# EAGLE library part JST-PH-4 (library dviid)
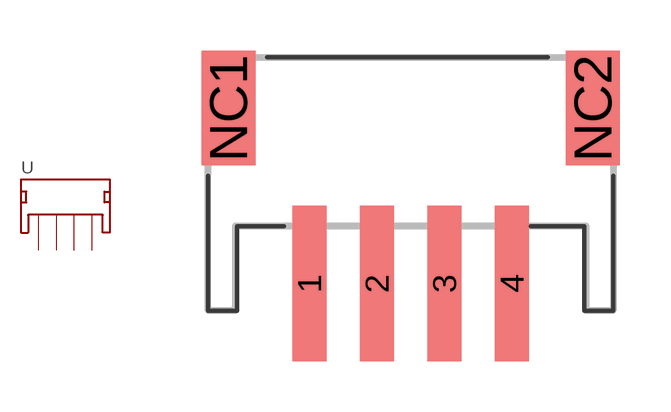
[diagram p22: symbol with the pads of JST-PH-4-SMT-RA; footprint JST-PH-4-SMT-RA]

Designator prefix -

## JST-PH-4  [JST-PH-4-SMT-RA]
1  A
2  B
3  C
4  D
NC1  PAD1
NC2  PAD2

## Footprint JST-PH-4-SMT-RA (pad centres in mm)
smd 1 x 4.6: 1 -1,-3.7; 2 1,-3.7; 3 3,-3.7; 4 5,-3.7
smd 1.6 x 3.4: NC1 -3.4,1.5; NC2 7.4,1.5